# Altium schematic symbol library CRCW060322K1FKEA.SchLib: 1 symbol
Pins are listed as number, name and electrical type; pins without a type are passive.

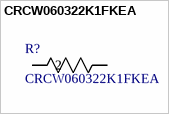
[diagram p0: symbol CRCW060322K1FKEA]

## CRCW060322K1FKEA
designator R?
D11/CRCW0603 100 22K1 1% ET1 e3; Manufacturer_Name: Vishay; Copyright: Copyright (C) 2025 Ultra Librarian. All rights reserved.; Manufacturer_Part_Number: CRCW060322K1FKEA
footprint RES_CRCW_0603
pins: 1, 2